# Altium footprint library songshuai.PcbLib: 62 footprints (part 4 of 4)
Each footprint in its own frame and in the unit in brackets; x right, y up, seen from the top. Pads: shape width x height; smd on the part's side, far side on the other; paste and mask are expansions set on the pad; w line width, h text height; cw(c..) or ccw(c..) is an arc to the next point about the centre after c.
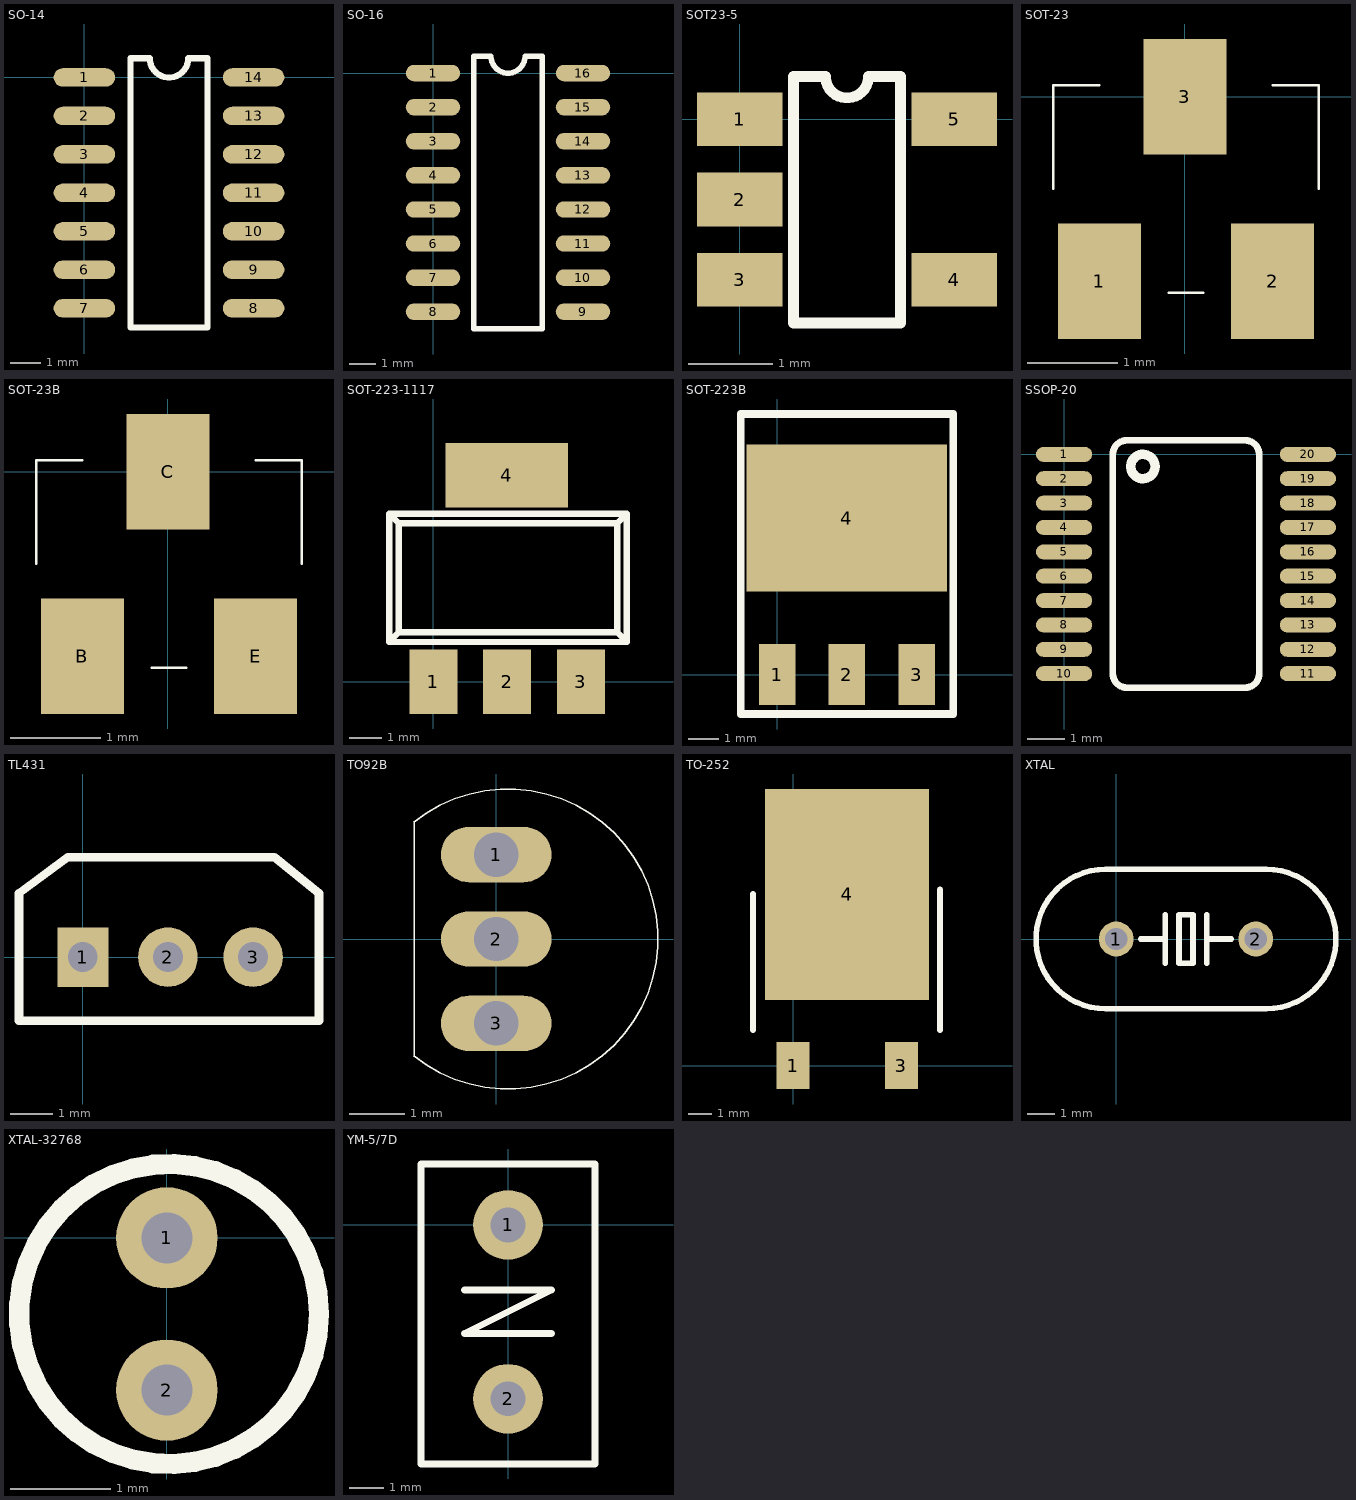
[diagram p3: the footprints below, top view; thin cyan lines are the x and y axes]

## SO-14 [mil]
pads (14):
  oval 80x24 smd: 1(0,0) 2(0,-50) 3(0,-100) 4(0,-150) 5(0,-200) 6(0,-250) 7(0,-300) 8(220,-300) 9(220,-250) 10(220,-200) 11(220,-150) 12(220,-100) 13(220,-50) 14(220,0)
Top Overlay:
  lines w8: 60,-325 60,25 85,25 ccw(c110,25) 135,25 160,25 160,-325 60,-325

## SO-16 [mil]
height 118.11
pads (16):
  oval 80x24 smd: 1(0,0) 2(0,-50) 3(0,-100) 4(0,-150) 5(0,-200) 6(0,-250) 7(0,-300) 8(0,-350) 9(220,-350) 10(220,-300) 11(220,-250) 12(220,-200) 13(220,-150) 14(220,-100) 15(220,-50) 16(220,0)
Top Overlay:
  lines w8: 60,-375 160,-375 160,25 135,25 cw(c110,25) 85,25 60,25 60,-375

## SOT23-5 [mil]
height 600
pads (5):
  rect 40x25 smd: 1(0,0) 2(0,-37.4) 3(0,-74.8) 4(100,-74.8) 5(100,0)
Top Overlay:
  lines w5: 25,-95 25,20 40,20 ccw(c50,20) 60,20 75,20 75,-95 25,-95

## SOT-23 [mil]
height 64.96
pads (3):
  rect 36x50 smd: 1(-37,-80) 2(38,-80) 3(0,0)
Top Overlay:
  lines w1: -57,-40 -57,5 -37,5 ; -7,-85 8,-85 ; 38,5 58,5 58,-40

## SOT-23B [mil]
height 64.96
pads (3):
  rect 36x50 smd: B(-37,-80) C(0,0) E(38,-80)
Top Overlay:
  lines w1: -57,-40 -57,5 -37,5 ; -7,-85 8,-85 ; 38,5 58,5 58,-40

## SOT-223-1117 [mil] "LDO"
height 118.11
pads (4):
  rect 59x79 smd: 1(0,0) 2(90.55,0) 3(181.1,0)
  rect 150x79 smd: 4(89.88,253.54)
Top Overlay:
  lines w7.87: -54.12,48.8 -42.31,60.61 ; -54.12,48.8 -54.12,48.8 ; -54.12,48.8 -54.12,48.8 ; -54.12,48.8 -54.12,206.28 ; -54.12,48.8 237.22,48.8 ; -54.12,206.28 -42.31,194.47 ; -54.12,206.28 237.22,206.28 ; -42.31,60.61 225.41,60.61 ; -42.31,60.61 -42.31,194.47 ; -42.31,194.47 225.41,194.47 ; 225.41,60.61 237.22,48.8 ; 225.41,60.61 225.41,194.47 ; 225.41,194.47 237.22,206.28 ; 237.22,48.8 237.22,206.28

## SOT-223B [mm]
height 3
pads (4):
  rect 1.2x2 smd: 1(0,0) 2(2.3,0) 3(4.6,0)
  rect 6.604x4.826 smd: 4(2.3,5.156)
Top Overlay:
  lines w0.25: -1.2,8.582 -1.2,-1.3 5.8,-1.3 5.8,8.582 ; -1.194,8.582 5.806,8.582

## SSOP-20 [mm]
height 15.24
pads (20):
  oval 1.5x0.4 smd: 1(0,0) 2(0,-0.65) 3(0,-1.3) 4(0,-1.95) 5(0,-2.6) 6(0,-3.25) 7(0,-3.9) 8(0,-4.55) 9(0,-5.2) 10(0,-5.85) 11(6.5,-5.85) 12(6.5,-5.2) 13(6.5,-4.55) 14(6.5,-3.9) 15(6.5,-3.25) 16(6.5,-2.6) 17(6.5,-1.95) 18(6.5,-1.3) 19(6.5,-0.65) 20(6.5,0)
Top Overlay:
  circle w0.254: c2.1,-0.325 r0.325
  lines w0.178: 1.3,-5.625 1.3,-5.85 ; 1.3,-0.5 1.3,0 ; 4.075,0.375 4.825,0.375 cw(c4.825,0) 5.2,0 ; 4.55,0.375 1.95,0.375 1.675,0.375 ccw(c1.675,0) 1.3,0 ; 5.2,-5.6 5.2,-5.85 ; 5.2,-5.575 5.2,-5.85 ; 5.2,-5.85 cw(c4.825,-5.85) 4.825,-6.225 4.55,-6.225 1.95,-6.225 1.675,-6.225 cw(c1.675,-5.85) 1.3,-5.85 ; 1.3,-5.85 1.3,0 ; 5.2,-5.85 5.2,0 ; 5.2,0 5.2,-0.25 5.2,0

## TL431 [mm]
height 0.2
pads (3):
  rect 1.2x1.4 hole 0.7: 1(0,0)
  round 1.4 hole 0.7: 2(2,0) 3(4,0)
Top Overlay:
  lines w0.2: 5.525,-1.5 3.5,-1.5 2,-1.5 0,-1.5 -1.5,-1.5 -1.5,1.5 -0.35,2.35 4.5,2.35 5.55,1.5 5.55,-1.5

## TO92B [mm]
pads (3):
  oval 2x1 hole 0.8: 1(0,1.524) 2(0,0) 3(0,-1.524)
Top Overlay:
  lines w0.025: -1.493,-2.106 ccw(c0.212,0) -1.493,2.106 ; -1.482,-2.117 -1.482,2.117

## TO-252 [mm]
height 0.127
pads (3):
  rect 1.4x2 smd: 1(-0.013,0.003) 3(4.61,0.003)
  rect 7x9 smd: 4(2.287,7.303)
Top Overlay:
  lines w0.254: -1.729,1.527 -1.729,7.318 ; 6.248,1.527 6.248,7.518

## XTAL [mil]
height 300
pads (2):
  round 50 hole 32: 1(0,0) 2(200,0)
Top Overlay:
  lines w8: 35,0 70,0 ; 70,-35 70,35 ; 130,-35 130,35 ; 130,0 165,0 ; -15,-100 cw(c-15,0) -15,100 215,100 cw(c215,0) 215,-100 -15,-100 ; 90,-35 110,-35 110,35 90,35 90,-35

## XTAL-32768 [mil]
height 64.96
pads (2):
  round 40 hole 20: 1(0,0) 2(0,-60)
Top Overlay:
  circle w8: c0.83,-30 r59.17

## YM-5/7D [mil]
pads (2):
  round 80 hole 40: 1(0,0) 2(0,-200)
Top Overlay:
  lines w8: -50,-75 50,-75 -50,-125 50,-125 ; -100,-275 -100,70 100,70 100,-275 -100,-275